# EAGLE library part 16-SEG_ (library Hornet UFC 020a)
16 SEGMENT SINGLE DIGIT ALPHANUMERIC NUMERIC DISPLAY
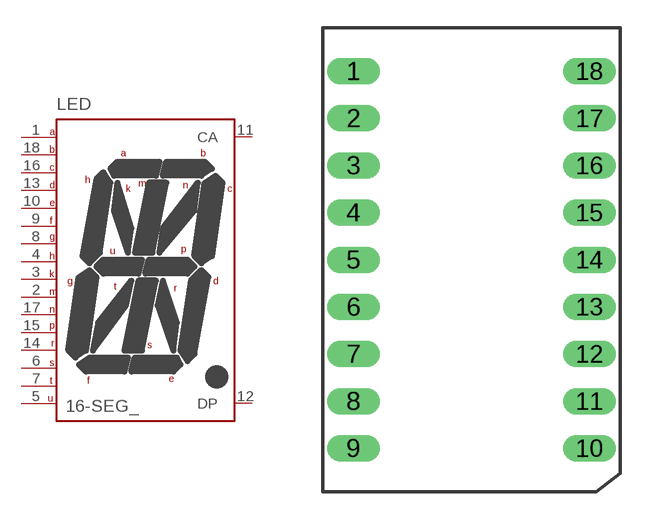
[diagram p3: symbol with the pads of PSC05-11; footprint PSC05-11]

Designator prefix LED

## 16-SEG_PSC05-11, 16-SEG_THROUGH_HOLEPSC05-11  [PSC05-11]
1  A  pas
2  M  pas
3  K  pas
4  H  pas
5  U  pas
6  S  pas
7  T  pas
8  G  pas
9  F  pas
10  E  pas
11  CA  pas
12  DP  pas
13  D  pas
14  R  pas
15  P  pas
16  C  pas
17  N  pas
18  B  pas

## Footprint PSC05-11 (pad centres in mm)
12.7mm(0.5 INCH) 16 SEGMENT SINGLE DIGIT ALPHANUMERIC NUMERIC DISPLAY Source: http://www.kingbright.com/attachments/file/psearch/000/00/00/PSC05-11CGKWA(Ver.7A).pdf
drill 0.7 pad 1.422 long: 1 -6.35,10.16; 2 -6.35,7.62; 3 -6.35,5.08; 4 -6.35,2.54; 5 -6.35,0; 6 -6.35,-2.54; 7 -6.35,-5.08; 8 -6.35,-7.62; 9 -6.35,-10.16; 10 6.35,-10.16; 11 6.35,-7.62; 12 6.35,-5.08; 13 6.35,-2.54; 14 6.35,0; 15 6.35,2.54; 16 6.35,5.08; 17 6.35,7.62; 18 6.35,10.16